# EAGLE library part LTC3429 (library casovac)
600mA, 500kHz Micropower Synchronous Boost Converter with Output Disconnect
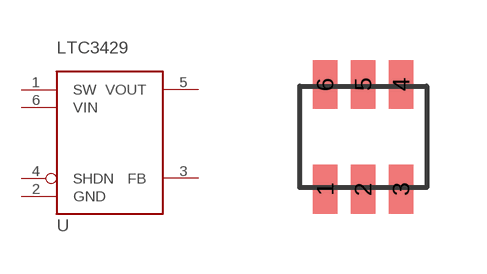
[diagram p5: symbol with the pads of TSOT-23-6; footprint TSOT-23-6]

Designator prefix -

## LTC3429  [TSOT-23-6]
1  SW
2  GND
3  FB
4  SHDN
5  VOUT
6  VIN

## Footprint TSOT-23-6 (pad centres in mm)
smd 0.622 x 1.22: 1 -0.95,-1.31; 2 0,-1.31; 3 0.95,-1.31; 4 0.95,1.31; 5 0,1.31; 6 -0.95,1.31